# EAGLE library part ACS712 (library WarthogRobotics-Sensors)
CURRENT SENSOR
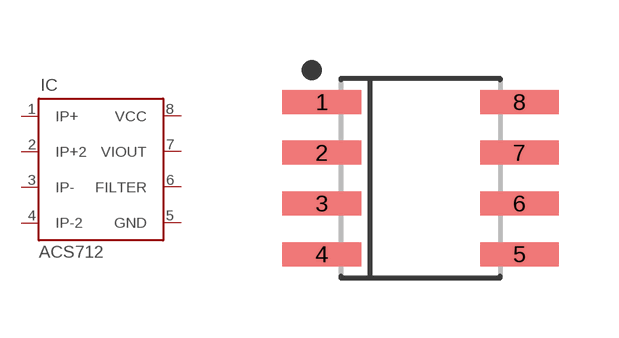
[diagram p1: symbol with the pads of SOIC-8(N); footprint SOIC-8(N)]

Designator prefix IC

## ACS712  [SOIC-8(N)]
1  IP+  in
2  IP+2  in
3  IP-  out
4  IP-2  out
5  GND  pwr
6  FILTER  in
7  VIOUT  out
8  VCC  pwr

## Footprint SOIC-8(N) (pad centres in mm)
8-SOIC, 1.27 mm pitch, 6.00 mm span, 4.91 X 3.90 X 1.75 mm body 8-pin SOIC package with 1.27 mm pitch, 6.00 mm span with body size 4.91 X 3.90 X 1.75 mm
smd 1.967 x 0.599: 1 -2.469,1.905; 2 -2.469,0.635; 3 -2.469,-0.635; 4 -2.469,-1.905; 5 2.469,-1.905; 6 2.469,-0.635; 7 2.469,0.635; 8 2.469,1.905